# Altium footprint library TE CONN HEADER 2POS.PcbLib: 1 footprints
Each footprint in its own frame and in the unit in brackets; x right, y up, seen from the top. Pads: shape width x height; smd on the part's side, far side on the other; paste and mask are expansions set on the pad; w line width, h text height; cw(c..) or ccw(c..) is an arc to the next point about the centre after c.
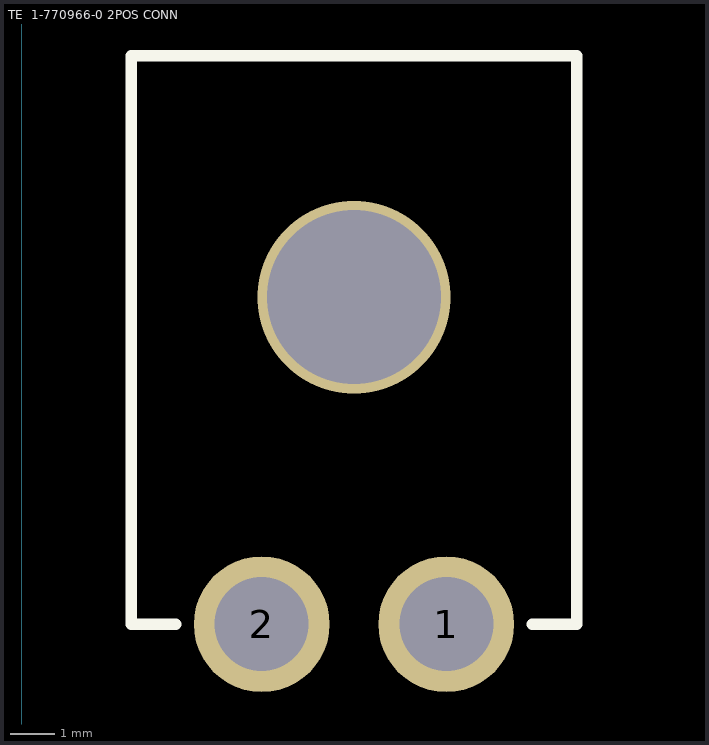
[diagram p0: the footprint, top view; thin cyan lines are the x and y axes]

## TE  1-770966-0 2POS CONN [mil] "CONN HEADER R/A 2POS 4.14MM"
pads (2):
  round 120 hole 83: 1(375,-880) 2(212.01,-880)
via 293.5,-591.02 diameter 170 hole 154
Top Overlay:
  lines w10: 136.02,-880 96.65,-880 96.65,-378.03 490.35,-378.03 490.35,-880 450.98,-880
3D body "Mini_universal MATE-N-LOK - Horizontal - 2 Pin.stp": height 306.5, standoff -205.5, extent 101.99,-901.07 540.98,-322.08